# Altium schematic symbol library Kingbright APT2012SRCPRV.Schlib: 1 symbol
Pins are listed as number, name and electrical type; pins without a type are passive.

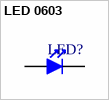
[diagram p0: symbol LED 0603]

## LED 0603
designator LED?
TYPE: LED; Mount Type: SMT; Supplier 1: Mouser; Technology: 1 colour; Value 2: *; Package: 0603; ComponentLink1Description: Datasheet Link; ComponentLink1URL: https://www.mouser.bg/datasheet/2/196/Infineon-SMBT2222A_MMBT2222A-DS-v01_01-en-1226587.pdf; Value 1: *
footprint LED0603(1608)G
footprint LED0603(1608)R
pins: 1 A, 2 A
1 alternate drawing of the same symbol